# Altium footprint library tripas.PCBLIB: 1 footprints
Each footprint in its own frame and in the unit in brackets; x right, y up, seen from the top. Pads: shape width x height; smd on the part's side, far side on the other; paste and mask are expansions set on the pad; w line width, h text height; cw(c..) or ccw(c..) is an arc to the next point about the centre after c.
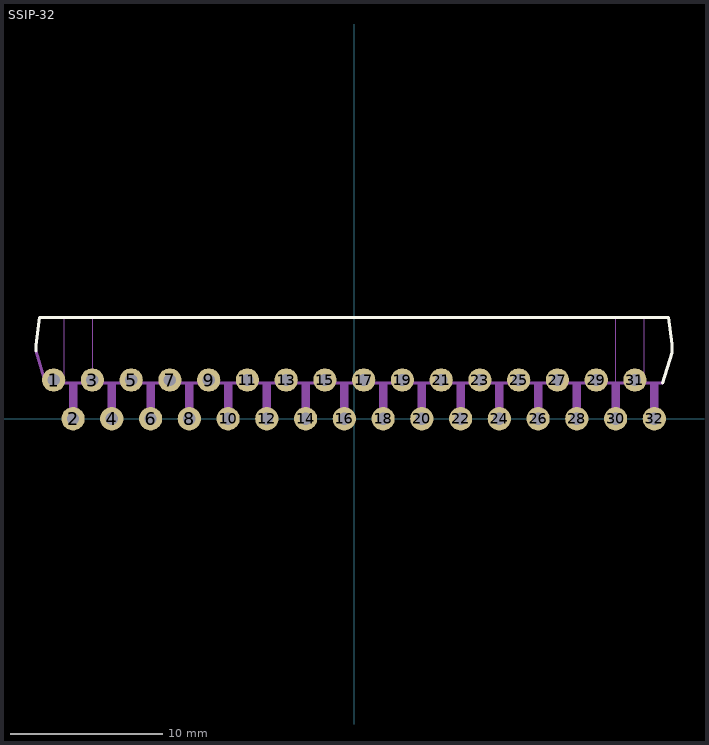
[diagram p0: the footprint, top view; thin cyan lines are the x and y axes]

## SSIP-32 [mil]
pads (32):
  round 60 hole 32: 1(-775,100) 2(-725,0) 3(-675,100) 4(-625,0) 5(-575,100) 6(-525,0) 7(-475,100) 8(-425,0) 9(-375,100) 10(-325,0) 11(-275,100) 12(-225,0) 13(-175,100) 14(-125,0) 15(-75,100) 16(-25,0) 17(25,100) 18(75,0) 19(125,100) 20(175,0) 21(225,100) 22(275,0) 23(325,100) 24(375,0) 25(425,100) 26(475,0) 27(525,100) 28(575,0) 29(625,100) 30(675,0) 31(725,100) 32(775,0)
Top Overlay:
  lines w8: -821,175 -821,190 -811,261 811,261 821,193 821,170 796,92
Mechanical 16:
  lines w1: -747,94 -747,259 ; -676,94 -676,257 ; 676,95 676,258 ; 747,94 747,259
  lines w8: -821,175 -796,92 796,92
  lines w22: -725,0 -725,85 ; -625,0 -625,85 ; -525,0 -525,85 ; -425,0 -425,85 ; -325,0 -325,85 ; -225,0 -225,85 ; -125,0 -125,85 ; -25,0 -25,85 ; 75,0 75,85 ; 175,0 175,85 ; 275,0 275,85 ; 375,0 375,85 ; 475,0 475,85 ; 575,0 575,85 ; 675,0 675,85 ; 775,0 775,85